# Altium footprint library EISI.PcbLib: 695 footprints (part 33 of 44)
Each footprint in its own frame and in the unit in brackets; x right, y up, seen from the top. Pads: shape width x height; smd on the part's side, far side on the other; paste and mask are expansions set on the pad; w line width, h text height; cw(c..) or ccw(c..) is an arc to the next point about the centre after c.
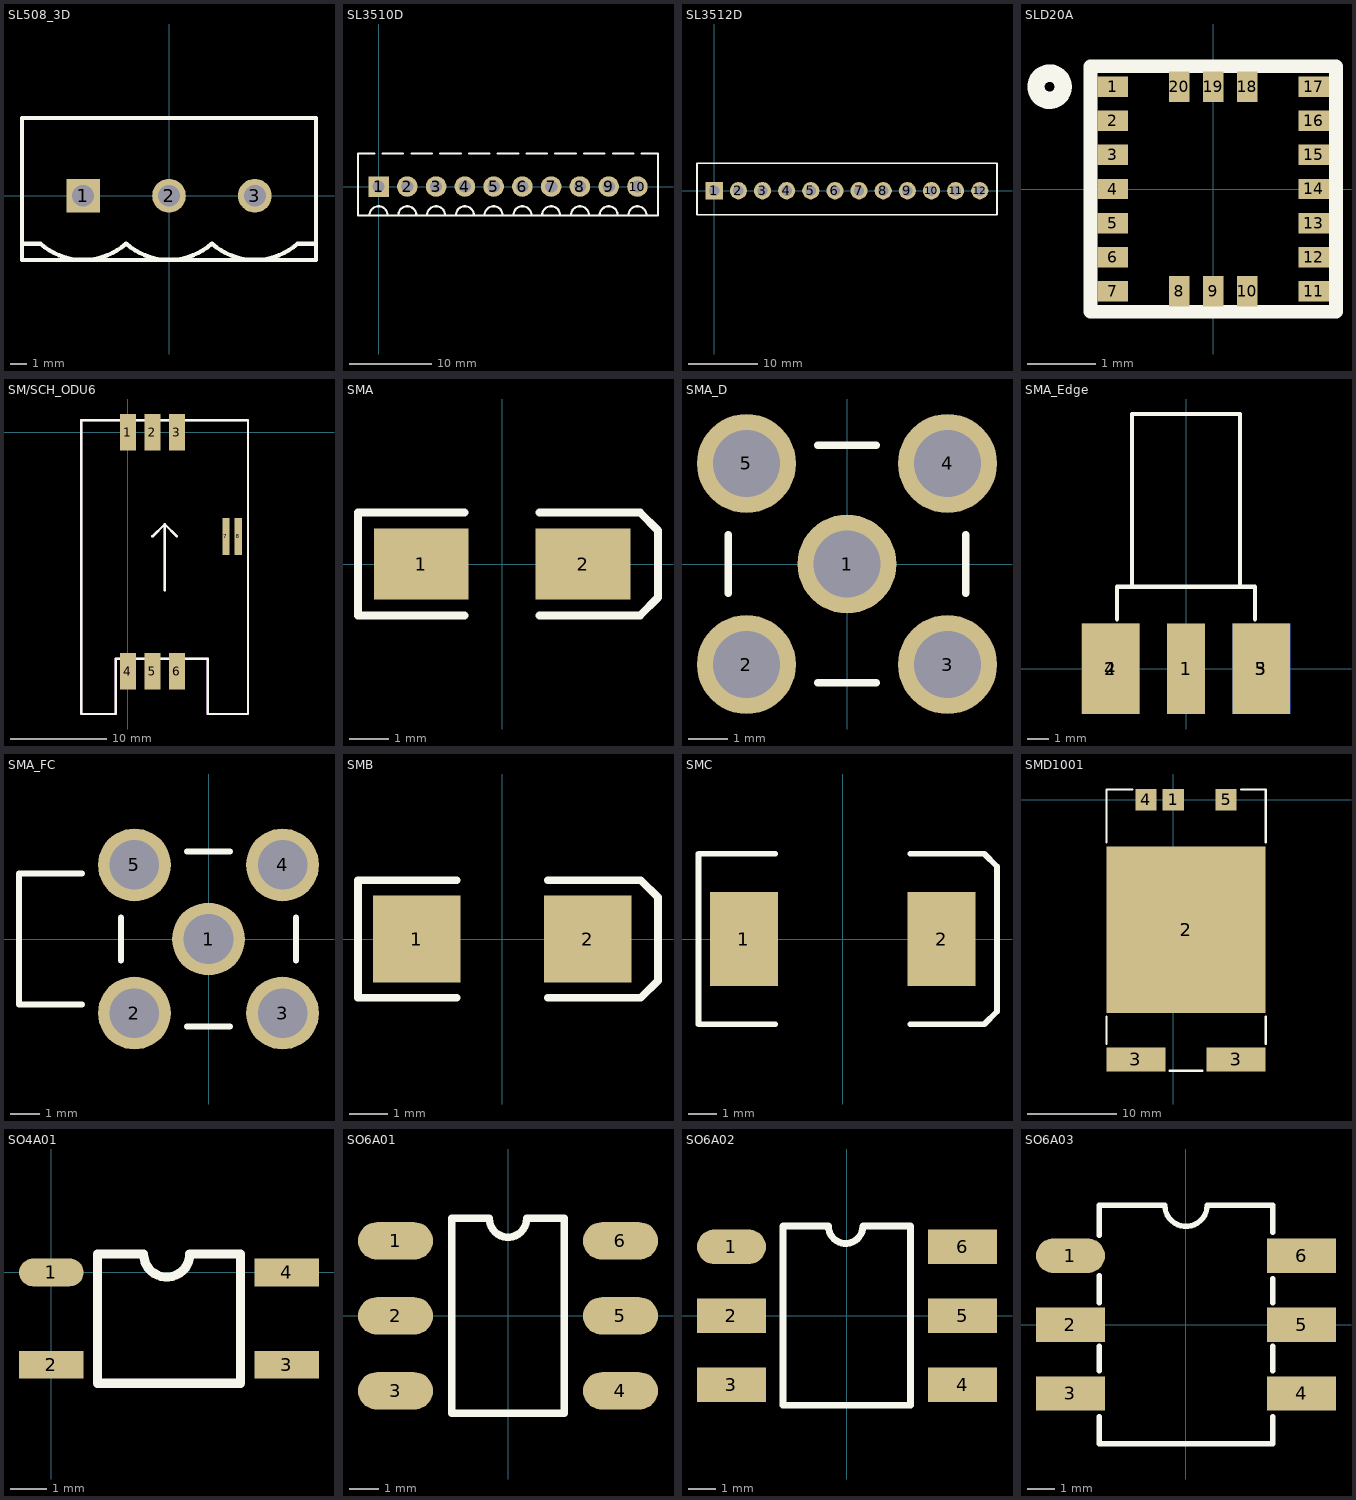
[diagram p32: the footprints below, top view; thin cyan lines are the x and y axes]

## SL508_3D [mm] "Weidmuller SL 5.08/03/180B"
height 12
pads (3):
  rect 2x2 hole 1.3: 1(-5.08,0)
  round 2 hole 1.3: 2(0,0) 3(5.08,0)
TopOverlay:
  lines w0.25: -8.7,-2.9 -8.638,-2.838 -7.607,-2.838 ; 7.607,-2.838 8.662,-2.838 8.7,-2.8 ; -8.7,-3.8 8.7,-3.8 8.7,4.6 -8.7,4.6 -8.7,-3.8
  lines w0.254: -7.607,-2.838 ccw(c-5.08,0) -2.553,-2.838 ; -2.527,-2.838 ccw(c0,0) 2.527,-2.838 ; 2.553,-2.838 ccw(c5.08,0) 7.607,-2.838

## SL3510D [mm]
pads (10):
  rect 2.5x2.5 hole 1.5: 1(0,0)
  round 2.5 hole 1.5: 2(3.5,0) 3(7,0) 4(10.5,0) 5(14,0) 6(17.5,0) 7(21,0) 8(24.5,0) 9(28,0) 10(31.5,0)
TopOverlay:
  lines w0.254: -1.1,-3.5 cw(c0,-3.5) 1.1,-3.5 ; -0.5,4 -2.5,4 -2.5,-3.5 34,-3.5 34,4 32,4 ; 0.5,4 3,4 ; 2.4,-3.5 cw(c3.5,-3.5) 4.6,-3.5 ; 4,4 6.5,4 ; 5.9,-3.5 cw(c7,-3.5) 8.1,-3.5 ; 7.5,4 10,4 ; 9.4,-3.5 cw(c10.5,-3.5) 11.6,-3.5 ; 11,4 13.5,4 ; 12.9,-3.5 cw(c14,-3.5) 15.1,-3.5 ; 14.5,4 17,4 ; 16.4,-3.5 cw(c17.5,-3.5) 18.6,-3.5 ; 18,4 20.5,4 ; 19.9,-3.5 cw(c21,-3.5) 22.1,-3.5 ; 21.5,4 24,4 ; 23.4,-3.5 cw(c24.5,-3.5) 25.6,-3.5 ; 25,4 27.5,4 ; 26.9,-3.5 cw(c28,-3.5) 29.1,-3.5 ; 28.5,4 31,4 ; 30.4,-3.5 cw(c31.5,-3.5) 32.6,-3.5

## SL3512D [mm]
pads (12):
  rect 2.5x2.5 hole 1.5: 1(0,0)
  round 2.5 hole 1.5: 2(3.5,0) 3(7,0) 4(10.5,0) 5(14,0) 6(17.5,0) 7(21,0) 8(24.5,0) 9(28,0) 10(31.5,0) 11(35,0) 12(38.5,0)
TopOverlay:
  lines w0.254: -2.5,-3.5 41,-3.5 41,4 -2.5,4 -2.5,-3.5

## SLD20A [mm] "20-pin Thin Chip Scale Package"
height 0.8
pads (20):
  rect 0.45x0.3 smd: 1(-1.475,1.5) 2(-1.475,1) 3(-1.475,0.5) 4(-1.475,0) 5(-1.475,-0.5) 6(-1.475,-1) 7(-1.475,-1.5) 11(1.475,-1.5) 12(1.475,-1) 13(1.475,-0.5) 14(1.475,0) 15(1.475,0.5) 16(1.475,1) 17(1.475,1.5)
  rect 0.3x0.45 smd: 8(-0.5,-1.5) 9(0,-1.5) 10(0.5,-1.5) 18(0.5,1.5) 19(0,1.5) 20(-0.5,1.5)
TopOverlay:
  circle w0.254: c-2.4,1.5 r0.2
  lines w0.2: -1.8,-1.8 1.8,-1.8 1.8,1.8 -1.8,1.8 -1.8,-1.8

## SM/SCH_ODU6 [mil]
pads (8):
  rect 65x150 smd: 1(0,0) 2(100,0) 3(200,0) 4(0,-975) 5(100,-975) 6(200,-975)
  rect 30x150 smd: 7(400,-425) 8(450,-425)
TopOverlay:
  lines w10: 100,-425 150,-375 ; 150,-645 150,-375 ; 200,-425 150,-375 ; -190,-1150 -190,50 490,50 490,-1090 490,-1150 325,-1150 325,-925 -50,-925 -50,-1150 -190,-1150
  text ".Designator" at 0,-362.5 h56.25
Mechanical1:
  lines w10: 100,-425 150,-375 ; 100,-425 150,-375 ; 100,-425 150,-375 ; 150,-645 150,-375 ; 150,-645 150,-375 ; 150,-645 150,-375 ; 150,-375 200,-425 ; 150,-375 200,-425 ; 150,-375 200,-425 ; -190,-1150 -190,50 490,50 490,-1090 490,-1150 325,-1150 325,-925 -50,-925 -50,-1150 -190,-1150
  text "SM/SCH_ODU6" at -150,-700 h56.25
  text ".Comment" at 0,-475 h56.25
  text ".Designator" at 0,-362.5 h56.25

## SMA [mm] "DO-214-AC/SMA; 2 C-Bend Leads; Body 5 x 2.7 mm, inc. leads (LxW)"
height 2.44
pads (2):
  rect 2.4x1.8 smd: 1(-2.05,0) 2(2.05,0)
TopOverlay:
  lines w0.2: -0.95,-1.3 -3.65,-1.3 -3.65,1.3 -0.95,1.3 ; 0.95,-1.3 3.5,-1.3 3.95,-0.85 3.95,0.85 3.5,1.3 0.95,1.3

## SMA_D [mm] "Con SMA femelle print droit"
height 5.85
pads (5):
  round 2.5 hole 1.7: 1(0,0) 2(-2.54,-2.54) 3(2.54,-2.54) 4(2.54,2.54) 5(-2.54,2.54)
TopOverlay:
  lines w0.2: -3,-0.74 -3,0.74 ; -0.74,-3 0.74,-3 ; -0.74,3 0.74,3 ; 3,-0.74 3,0.74

## SMA_Edge [mil] "CONN SMA JACK END LAUNCH PCB (142-0711-821)"
height 236.22
pads (5):
  rect 70x165 smd: 1(0,0)
  rect 105x165 smd: 2(-137.5,0) 3(137.5,0)
  rect 105x165 smd far side: 4(-137.5,0) 5(137.5,0)
TopOverlay:
  lines w7.87: -125.98,90.55 -125.98,149.61 125.98,149.61 125.98,90.55 ; -98.43,149.61 -98.43,464.57 98.43,464.57 98.43,149.61

## SMA_FC [mm] "Con SMA femelle print coudé"
height 5.85
pads (5):
  round 2.5 hole 1.7: 1(0,0) 2(-2.54,-2.54) 3(2.54,-2.54) 4(2.54,2.54) 5(-2.54,2.54)
TopOverlay:
  lines w0.2: -4.34,-2.25 -6.5,-2.25 -6.5,2.25 -4.34,2.25 ; -3,-0.74 -3,0.74 ; -0.74,-3 0.74,-3 ; -0.74,3 0.74,3 ; 3,-0.74 3,0.74

## SMB [mm] "DO-214-AA/SMB; 2 C-Bend Leads; Body 5.3 x 3.6 mm, inc. leads (LxW)"
height 2.54
pads (2):
  rect 2.3x2.3 smd: 1(-2.25,0) 2(2.25,0)
TopOverlay:
  lines w0.2: -1.2,-1.55 -3.8,-1.55 -3.8,1.55 -1.2,1.55 ; 1.2,-1.55 3.65,-1.55 4.1,-1.1 4.1,1.1 3.65,1.55 1.2,1.55

## SMC [mm] "DO-214-AB/SMC; 2 C-Bend Leads; Body 7.9 x 5.9 mm, inc. leads (LxW)"
height 2.57
pads (2):
  rect 2.4x3.3 smd: 1(-3.475,0) 2(3.475,0)
TopOverlay:
  lines w0.2: -2.375,-3 -5.075,-3 -5.075,3 -2.375,3 ; 2.375,-3 4.975,-3 5.425,-2.55 5.425,-2.4 5.425,2.4 5.425,2.55 4.975,3 2.375,3

## SMD1001 [mm]
pads (6):
  rect 2.4x2.4 smd: 1(0,0) 4(-3.05,0) 5(5.95,0)
  rect 17.9x18.75 smd: 2(1.45,-14.625)
  rect 6.65x2.7 smd: 3(-4.175,-29.2) 3(7.075,-29.2)
TopOverlay:
  lines w0.254: -7.493,-27.432 -7.493,-24.384 ; -7.493,-4.826 -7.493,1.143 -4.572,1.143 ; -0.381,-30.48 3.302,-30.48 ; 7.62,1.143 10.414,1.143 10.414,-4.826 ; 10.414,-27.432 10.414,-24.384

## SO4A01 [mil]
pads (4):
  oval 70x30 smd: 1(0,0)
  rect 70x30 smd: 2(0,-100) 3(255,-100) 4(255,0)
TopOverlay:
  lines w10: 50,-120 50,20 100,20 ccw(c125,20) 150,20 205,20 205,-120 50,-120

## SO6A01 [mm]
pads (6):
  oval 2.54x1.27 smd: 1(-3.81,2.54) 2(-3.81,0) 3(-3.81,-2.54) 4(3.81,-2.54) 5(3.81,0) 6(3.81,2.54)
TopOverlay:
  lines w0.254: -1.905,-3.302 -1.905,3.302 -0.635,3.302 ccw(c0,3.302) 0.635,3.302 1.905,3.302 1.905,-3.302 -1.905,-3.302

## SO6A02 [mm]
pads (6):
  oval 2.54x1.27 smd: 1(-4.26,2.54)
  rect 2.54x1.27 smd: 2(-4.26,0) 3(-4.26,-2.54) 4(4.26,-2.54) 5(4.26,0) 6(4.26,2.54)
TopOverlay:
  lines w0.254: -2.355,-3.302 2.34,-3.302 2.34,3.302 0.585,3.302 cw(c-0.05,3.302) -0.685,3.302 -2.355,3.302 -2.355,-3.302

## SO6A03 [mm] "AQV221A 8.8x6.4mm"
height 3.6
pads (6):
  oval 2.54x1.27 smd: 1(-4.26,2.54)
  rect 2.54x1.27 smd: 2(-4.26,0) 3(-4.26,-2.54) 4(4.26,-2.54) 5(4.26,0) 6(4.26,2.54)
TopOverlay:
  lines w0.2: -3.2,-3.4 -3.2,-4.4 3.2,-4.4 3.2,-3.4 ; -3.2,-1.7 -3.2,-0.8 ; -3.2,0.8 -3.2,1.8 ; -3.2,3.3 -3.2,4.4 -0.781,4.4 ccw(c0,4.4) 0.781,4.4 3.2,4.4 3.2,3.4 ; 3.2,-1.7 3.2,-0.8 ; 3.2,0.8 3.2,1.7